# Altium footprint library Connector_PinHeader_1.00mm.PcbLib: 278 footprints (part 4 of 18)
Each footprint in its own frame and in the unit in brackets; x right, y up, seen from the top. Pads: shape width x height; smd on the part's side, far side on the other; paste and mask are expansions set on the pad; w line width, h text height; cw(c..) or ccw(c..) is an arc to the next point about the centre after c.
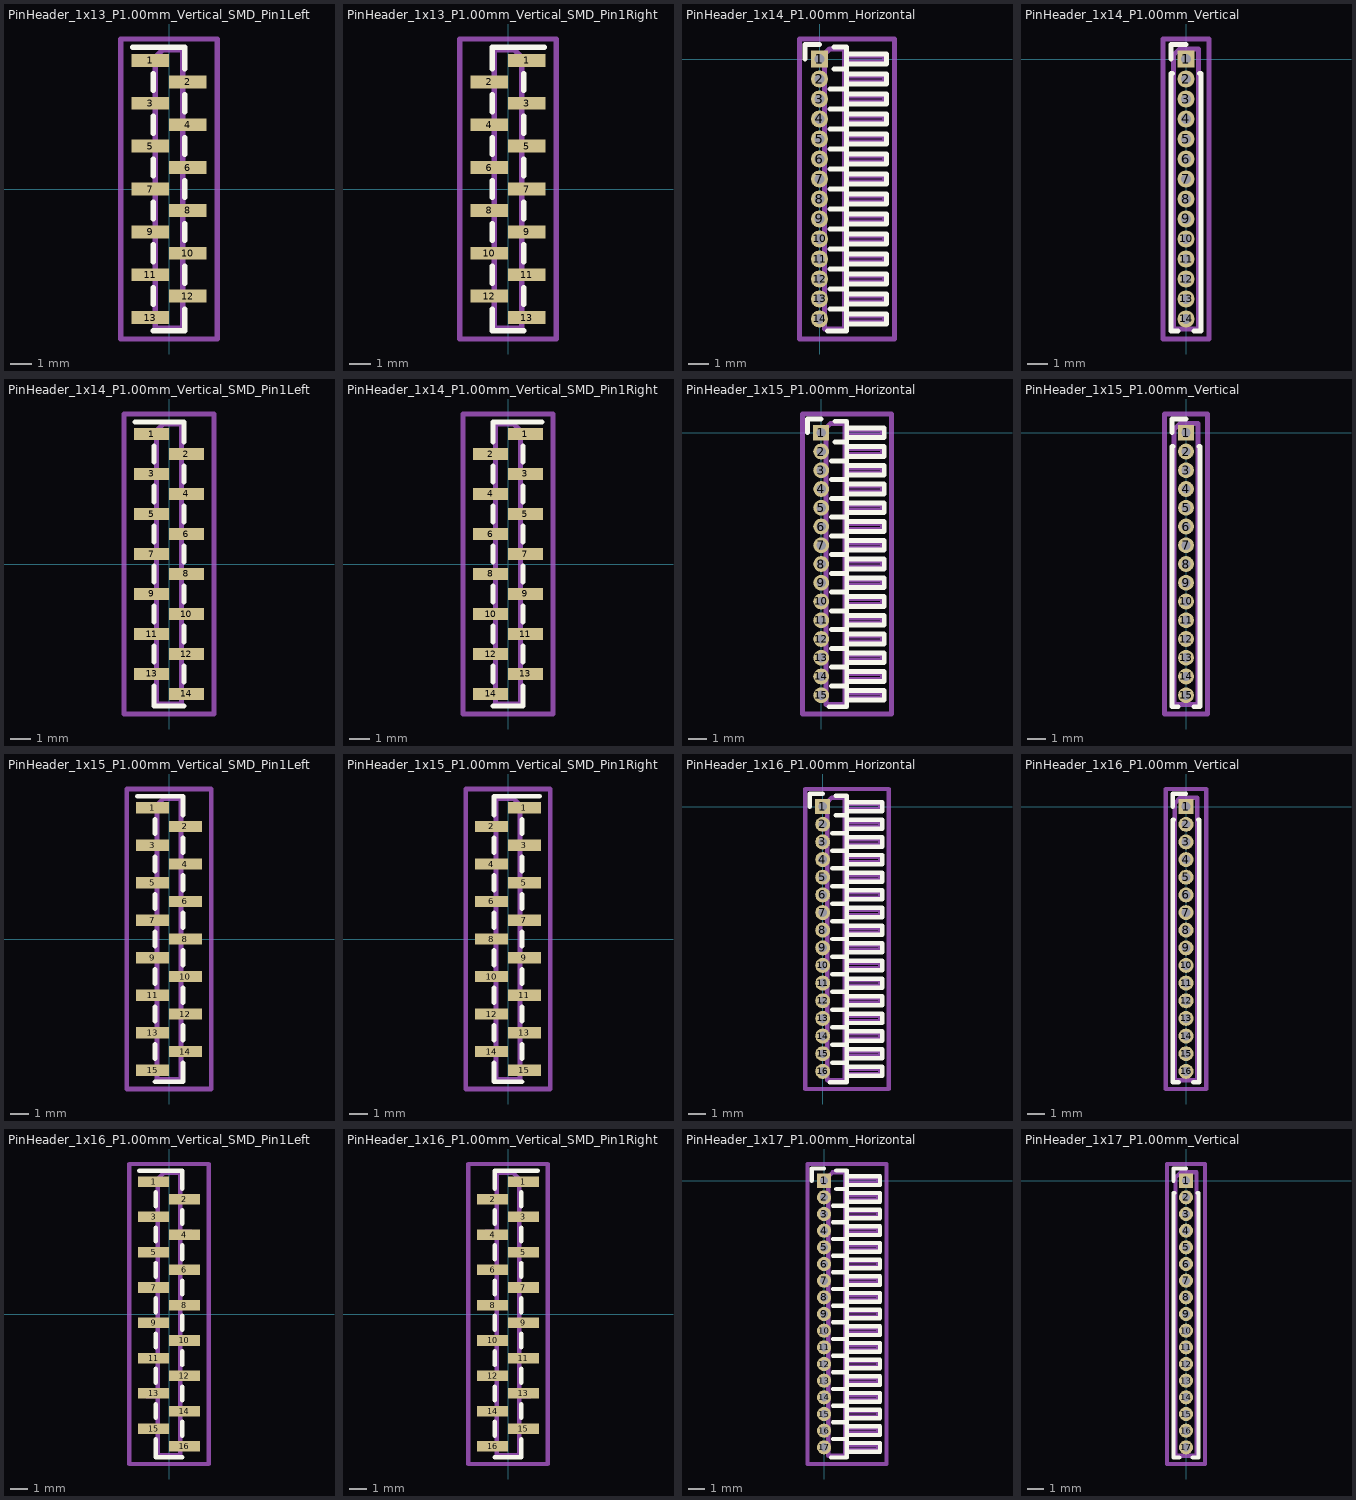
[diagram p3: the footprints below, top view; thin cyan lines are the x and y axes]

## PinHeader_1x13_P1.00mm_Vertical_SMD_Pin1Left [mm]
pads (13):
  rect 1.75x0.6 smd: 1(-0.875,6) 2(0.875,5) 3(-0.875,4) 4(0.875,3) 5(-0.875,2) 6(0.875,1) 7(-0.875,0) 8(0.875,-1) 9(-0.875,-2) 10(0.875,-3) 11(-0.875,-4) 12(0.875,-5) 13(-0.875,-6)
F.SilkS:
  lines w0.254: -1.69,6.61 -0.745,6.61 0.745,6.61 0.745,5.61 ; -0.745,-6.61 0.745,-6.61 0.745,-5.61 ; -0.745,-5.39 -0.745,-4.61 ; -0.745,-3.39 -0.745,-2.61 ; -0.745,-1.39 -0.745,-0.61 ; -0.745,0.61 -0.745,1.39 ; -0.745,2.61 -0.745,3.39 ; -0.745,4.61 -0.745,5.39 ; 0.745,-4.39 0.745,-3.61 ; 0.745,-2.39 0.745,-1.61 ; 0.745,-0.39 0.745,0.39 ; 0.745,1.61 0.745,2.39 ; 0.745,3.61 0.745,4.39
Top Assembly:
  lines w0.254: -0.635,-6.15 -1.25,-6.15 -1.25,-5.85 -0.635,-5.85 ; -0.635,-4.15 -1.25,-4.15 -1.25,-3.85 -0.635,-3.85 ; -0.635,-2.15 -1.25,-2.15 -1.25,-1.85 -0.635,-1.85 ; -0.635,-0.15 -1.25,-0.15 -1.25,0.15 -0.635,0.15 ; -0.635,1.85 -1.25,1.85 -1.25,2.15 -0.635,2.15 ; -0.635,3.85 -1.25,3.85 -1.25,4.15 -0.635,4.15 ; -0.635,5.85 -1.25,5.85 -1.25,6.15 -0.635,6.15 ; 0.635,-5.15 1.25,-5.15 1.25,-4.85 0.635,-4.85 ; 0.635,-3.15 1.25,-3.15 1.25,-2.85 0.635,-2.85 ; 0.635,-1.15 1.25,-1.15 1.25,-0.85 0.635,-0.85 ; 0.635,0.85 1.25,0.85 1.25,1.15 0.635,1.15 ; 0.635,2.85 1.25,2.85 1.25,3.15 0.635,3.15 ; 0.635,4.85 1.25,4.85 1.25,5.15 0.635,5.15 ; -0.635,6.15 -0.635,-6.5 0.635,-6.5 0.635,6.5 -0.285,6.5 -0.635,6.15
  text "'.Designator'" at 0.84,-4.047 h1
Top Courtyard:
  lines w0.254: -2.25,-7 2.25,-7 2.25,7 -2.25,7 -2.25,-7
Top Designator:
  text ".Designator" at -7.618,-0.508 h1.52

## PinHeader_1x13_P1.00mm_Vertical_SMD_Pin1Right [mm]
pads (13):
  rect 1.75x0.6 smd: 1(0.875,6) 2(-0.875,5) 3(0.875,4) 4(-0.875,3) 5(0.875,2) 6(-0.875,1) 7(0.875,0) 8(-0.875,-1) 9(0.875,-2) 10(-0.875,-3) 11(0.875,-4) 12(-0.875,-5) 13(0.875,-6)
F.SilkS:
  lines w0.254: -0.745,-5.61 -0.745,-6.61 0.745,-6.61 ; -0.745,-4.39 -0.745,-3.61 ; -0.745,-2.39 -0.745,-1.61 ; -0.745,-0.39 -0.745,0.39 ; -0.745,1.61 -0.745,2.39 ; -0.745,3.61 -0.745,4.39 ; -0.745,6.39 -0.745,5.61 -0.745,6.61 0.745,6.61 1.69,6.61 ; 0.745,-5.39 0.745,-4.61 ; 0.745,-3.39 0.745,-2.61 ; 0.745,-1.39 0.745,-0.61 ; 0.745,0.61 0.745,1.39 ; 0.745,2.61 0.745,3.39 ; 0.745,4.61 0.745,5.39
Top Assembly:
  lines w0.254: -0.635,-5.15 -1.25,-5.15 -1.25,-4.85 -0.635,-4.85 ; -0.635,-3.15 -1.25,-3.15 -1.25,-2.85 -0.635,-2.85 ; -0.635,-1.15 -1.25,-1.15 -1.25,-0.85 -0.635,-0.85 ; -0.635,0.85 -1.25,0.85 -1.25,1.15 -0.635,1.15 ; -0.635,2.85 -1.25,2.85 -1.25,3.15 -0.635,3.15 ; -0.635,4.85 -1.25,4.85 -1.25,5.15 -0.635,5.15 ; 0.635,-6.15 1.25,-6.15 1.25,-5.85 0.635,-5.85 ; 0.635,-4.15 1.25,-4.15 1.25,-3.85 0.635,-3.85 ; 0.635,-2.15 1.25,-2.15 1.25,-1.85 0.635,-1.85 ; 0.635,-0.15 1.25,-0.15 1.25,0.15 0.635,0.15 ; 0.635,1.85 1.25,1.85 1.25,2.15 0.635,2.15 ; 0.635,3.85 1.25,3.85 1.25,4.15 0.635,4.15 ; 0.635,5.85 1.25,5.85 1.25,6.15 0.635,6.15 ; 0.635,6.15 0.635,-6.5 -0.635,-6.5 -0.635,6.5 0.285,6.5 0.635,6.15
  text "'.Designator'" at 0.84,-4.047 h1
Top Courtyard:
  lines w0.254: -2.25,-7 2.25,-7 2.25,7 -2.25,7 -2.25,-7
Top Designator:
  text ".Designator" at -7.618,-0.508 h1.52

## PinHeader_1x14_P1.00mm_Horizontal [mm]
pads (14):
  rect 0.85x0.85 hole 0.5: 1(0,0)
  round 0.85 hole 0.5: 2(0,-1) 3(0,-2) 4(0,-3) 5(0,-4) 6(0,-5) 7(0,-6) 8(0,-7) 9(0,-8) 10(0,-9) 11(0,-10) 12(0,-11) 13(0,-12) 14(0,-13)
F.SilkS:
  lines w0.254: -0.735,0 -0.735,0.735 0,0.735 ; 0.41,-13.61 1.36,-13.61 1.36,0.61 0.735,0.61 ; 0.539,-12.5 1.36,-12.5 ; 0.539,-11.5 1.36,-11.5 ; 0.539,-10.5 1.36,-10.5 ; 0.539,-9.5 1.36,-9.5 ; 0.539,-8.5 1.36,-8.5 ; 0.539,-7.5 1.36,-7.5 ; 0.539,-6.5 1.36,-6.5 ; 0.539,-5.5 1.36,-5.5 ; 0.539,-4.5 1.36,-4.5 ; 0.539,-3.5 1.36,-3.5 ; 0.539,-2.5 1.36,-2.5 ; 0.539,-1.5 1.36,-1.5 ; 0.735,-0.5 1.36,-0.5 ; 1.36,-13.26 3.36,-13.26 3.36,-12.74 1.36,-12.74 ; 1.36,-12.26 3.36,-12.26 3.36,-11.74 1.36,-11.74 ; 1.36,-11.26 3.36,-11.26 3.36,-10.74 1.36,-10.74 ; 1.36,-10.26 3.36,-10.26 3.36,-9.74 1.36,-9.74 ; 1.36,-9.26 3.36,-9.26 3.36,-8.74 1.36,-8.74 ; 1.36,-8.26 3.36,-8.26 3.36,-7.74 1.36,-7.74 ; 1.36,-7.26 3.36,-7.26 3.36,-6.74 1.36,-6.74 ; 1.36,-6.26 3.36,-6.26 3.36,-5.74 1.36,-5.74 ; 1.36,-5.26 3.36,-5.26 3.36,-4.74 1.36,-4.74 ; 1.36,-4.26 3.36,-4.26 3.36,-3.74 1.36,-3.74 ; 1.36,-3.26 3.36,-3.26 3.36,-2.74 1.36,-2.74 ; 1.36,-2.26 3.36,-2.26 3.36,-1.74 1.36,-1.74 ; 1.36,-1.26 3.36,-1.26 3.36,-0.74 1.36,-0.74 ; 1.36,-0.26 3.36,-0.26 3.36,0.26 1.36,0.26 1.36,-0.26
Top Assembly:
  lines w0.254: 0.25,-13.15 -0.15,-13.15 -0.15,-12.85 0.25,-12.85 ; 0.25,-12.15 -0.15,-12.15 -0.15,-11.85 0.25,-11.85 ; 0.25,-11.15 -0.15,-11.15 -0.15,-10.85 0.25,-10.85 ; 0.25,-10.15 -0.15,-10.15 -0.15,-9.85 0.25,-9.85 ; 0.25,-9.15 -0.15,-9.15 -0.15,-8.85 0.25,-8.85 ; 0.25,-8.15 -0.15,-8.15 -0.15,-7.85 0.25,-7.85 ; 0.25,-7.15 -0.15,-7.15 -0.15,-6.85 0.25,-6.85 ; 0.25,-6.15 -0.15,-6.15 -0.15,-5.85 0.25,-5.85 ; 0.25,-5.15 -0.15,-5.15 -0.15,-4.85 0.25,-4.85 ; 0.25,-4.15 -0.15,-4.15 -0.15,-3.85 0.25,-3.85 ; 0.25,-3.15 -0.15,-3.15 -0.15,-2.85 0.25,-2.85 ; 0.25,-2.15 -0.15,-2.15 -0.15,-1.85 0.25,-1.85 ; 0.25,-1.15 -0.15,-1.15 -0.15,-0.85 0.25,-0.85 ; 0.25,-0.15 -0.15,-0.15 -0.15,0.15 0.25,0.15 ; 1.25,-13.15 3.25,-13.15 3.25,-12.85 1.25,-12.85 ; 1.25,-12.15 3.25,-12.15 3.25,-11.85 1.25,-11.85 ; 1.25,-11.15 3.25,-11.15 3.25,-10.85 1.25,-10.85 ; 1.25,-10.15 3.25,-10.15 3.25,-9.85 1.25,-9.85 ; 1.25,-9.15 3.25,-9.15 3.25,-8.85 1.25,-8.85 ; 1.25,-8.15 3.25,-8.15 3.25,-7.85 1.25,-7.85 ; 1.25,-7.15 3.25,-7.15 3.25,-6.85 1.25,-6.85 ; 1.25,-6.15 3.25,-6.15 3.25,-5.85 1.25,-5.85 ; 1.25,-5.15 3.25,-5.15 3.25,-4.85 1.25,-4.85 ; 1.25,-4.15 3.25,-4.15 3.25,-3.85 1.25,-3.85 ; 1.25,-3.15 3.25,-3.15 3.25,-2.85 1.25,-2.85 ; 1.25,-2.15 3.25,-2.15 3.25,-1.85 1.25,-1.85 ; 1.25,-1.15 3.25,-1.15 3.25,-0.85 1.25,-0.85 ; 1.25,-0.15 3.25,-0.15 3.25,0.15 1.25,0.15 ; 0.25,-13.5 1.25,-13.5 1.25,0.5 0.5,0.5 0.25,0.25 0.25,-13.5
  text "'.Designator'" at 1.254,-8.928 h0.6
Top Courtyard:
  lines w0.254: -1,-14 3.75,-14 3.75,1 -1,1 -1,-14
Top Designator:
  text ".Designator" at -6.243,-7.008 h1.52

## PinHeader_1x14_P1.00mm_Vertical [mm]
pads (14):
  rect 0.85x0.85 hole 0.5: 1(0,0)
  round 0.85 hole 0.5: 2(0,-1) 3(0,-2) 4(0,-3) 5(0,-4) 6(0,-5) 7(0,-6) 8(0,-7) 9(0,-8) 10(0,-9) 11(0,-10) 12(0,-11) 13(0,-12) 14(0,-13)
F.SilkS:
  lines w0.254: -0.745,0 -0.745,0.735 0,0.735 ; -0.686,-0.735 -0.745,-0.735 -0.745,-13.61 -0.41,-13.61 ; 0.41,-13.61 0.745,-13.61 0.745,-0.735 0.686,-0.735
Top Assembly:
  lines w0.254: -0.635,-13.5 0.635,-13.5 0.635,0.5 -0.318,0.5 -0.635,0.182 -0.635,-13.5
  text "'.Designator'" at 0.639,-9.576 h0.76
Top Courtyard:
  lines w0.254: -1.14,-14 1.14,-14 1.14,1 -1.14,1 -1.14,-14
Top Designator:
  text ".Designator" at -7.618,-7.008 h1.52

## PinHeader_1x14_P1.00mm_Vertical_SMD_Pin1Left [mm]
pads (14):
  rect 1.75x0.6 smd: 1(-0.875,6.5) 2(0.875,5.5) 3(-0.875,4.5) 4(0.875,3.5) 5(-0.875,2.5) 6(0.875,1.5) 7(-0.875,0.5) 8(0.875,-0.5) 9(-0.875,-1.5) 10(0.875,-2.5) 11(-0.875,-3.5) 12(0.875,-4.5) 13(-0.875,-5.5) 14(0.875,-6.5)
F.SilkS:
  lines w0.254: -1.69,7.11 -0.745,7.11 0.745,7.11 0.745,6.11 ; -0.745,-6.11 -0.745,-7.11 0.745,-7.11 ; -0.745,-4.89 -0.745,-4.11 ; -0.745,-2.89 -0.745,-2.11 ; -0.745,-0.89 -0.745,-0.11 ; -0.745,1.11 -0.745,1.89 ; -0.745,3.11 -0.745,3.89 ; -0.745,5.11 -0.745,5.89 ; 0.745,-5.89 0.745,-5.11 ; 0.745,-3.89 0.745,-3.11 ; 0.745,-1.89 0.745,-1.11 ; 0.745,0.11 0.745,0.89 ; 0.745,2.11 0.745,2.89 ; 0.745,4.11 0.745,4.89
Top Assembly:
  lines w0.254: -0.635,-5.65 -1.25,-5.65 -1.25,-5.35 -0.635,-5.35 ; -0.635,-3.65 -1.25,-3.65 -1.25,-3.35 -0.635,-3.35 ; -0.635,-1.65 -1.25,-1.65 -1.25,-1.35 -0.635,-1.35 ; -0.635,0.35 -1.25,0.35 -1.25,0.65 -0.635,0.65 ; -0.635,2.35 -1.25,2.35 -1.25,2.65 -0.635,2.65 ; -0.635,4.35 -1.25,4.35 -1.25,4.65 -0.635,4.65 ; -0.635,6.35 -1.25,6.35 -1.25,6.65 -0.635,6.65 ; 0.635,-6.65 1.25,-6.65 1.25,-6.35 0.635,-6.35 ; 0.635,-4.65 1.25,-4.65 1.25,-4.35 0.635,-4.35 ; 0.635,-2.65 1.25,-2.65 1.25,-2.35 0.635,-2.35 ; 0.635,-0.65 1.25,-0.65 1.25,-0.35 0.635,-0.35 ; 0.635,1.35 1.25,1.35 1.25,1.65 0.635,1.65 ; 0.635,3.35 1.25,3.35 1.25,3.65 0.635,3.65 ; 0.635,5.35 1.25,5.35 1.25,5.65 0.635,5.65 ; -0.635,6.65 -0.635,-7 0.635,-7 0.635,7 -0.285,7 -0.635,6.65
  text "'.Designator'" at 0.84,-4.047 h1
Top Courtyard:
  lines w0.254: -2.25,-7.5 2.25,-7.5 2.25,7.5 -2.25,7.5 -2.25,-7.5
Top Designator:
  text ".Designator" at -7.618,-0.508 h1.52

## PinHeader_1x14_P1.00mm_Vertical_SMD_Pin1Right [mm]
pads (14):
  rect 1.75x0.6 smd: 1(0.875,6.5) 2(-0.875,5.5) 3(0.875,4.5) 4(-0.875,3.5) 5(0.875,2.5) 6(-0.875,1.5) 7(0.875,0.5) 8(-0.875,-0.5) 9(0.875,-1.5) 10(-0.875,-2.5) 11(0.875,-3.5) 12(-0.875,-4.5) 13(0.875,-5.5) 14(-0.875,-6.5)
F.SilkS:
  lines w0.254: -0.745,-7.11 0.745,-7.11 0.745,-6.11 ; -0.745,-5.89 -0.745,-5.11 ; -0.745,-3.89 -0.745,-3.11 ; -0.745,-1.89 -0.745,-1.11 ; -0.745,0.11 -0.745,0.89 ; -0.745,2.11 -0.745,2.89 ; -0.745,4.11 -0.745,4.89 ; -0.745,6.89 -0.745,6.11 -0.745,7.11 0.745,7.11 1.69,7.11 ; 0.745,-4.89 0.745,-4.11 ; 0.745,-2.89 0.745,-2.11 ; 0.745,-0.89 0.745,-0.11 ; 0.745,1.11 0.745,1.89 ; 0.745,3.11 0.745,3.89 ; 0.745,5.11 0.745,5.89
Top Assembly:
  lines w0.254: -0.635,-6.65 -1.25,-6.65 -1.25,-6.35 -0.635,-6.35 ; -0.635,-4.65 -1.25,-4.65 -1.25,-4.35 -0.635,-4.35 ; -0.635,-2.65 -1.25,-2.65 -1.25,-2.35 -0.635,-2.35 ; -0.635,-0.65 -1.25,-0.65 -1.25,-0.35 -0.635,-0.35 ; -0.635,1.35 -1.25,1.35 -1.25,1.65 -0.635,1.65 ; -0.635,3.35 -1.25,3.35 -1.25,3.65 -0.635,3.65 ; -0.635,5.35 -1.25,5.35 -1.25,5.65 -0.635,5.65 ; 0.635,-5.65 1.25,-5.65 1.25,-5.35 0.635,-5.35 ; 0.635,-3.65 1.25,-3.65 1.25,-3.35 0.635,-3.35 ; 0.635,-1.65 1.25,-1.65 1.25,-1.35 0.635,-1.35 ; 0.635,0.35 1.25,0.35 1.25,0.65 0.635,0.65 ; 0.635,2.35 1.25,2.35 1.25,2.65 0.635,2.65 ; 0.635,4.35 1.25,4.35 1.25,4.65 0.635,4.65 ; 0.635,6.35 1.25,6.35 1.25,6.65 0.635,6.65 ; 0.635,6.65 0.635,-7 -0.635,-7 -0.635,7 0.285,7 0.635,6.65
  text "'.Designator'" at 0.84,-4.047 h1
Top Courtyard:
  lines w0.254: -2.25,-7.5 2.25,-7.5 2.25,7.5 -2.25,7.5 -2.25,-7.5
Top Designator:
  text ".Designator" at -7.618,-0.508 h1.52

## PinHeader_1x15_P1.00mm_Horizontal [mm]
pads (15):
  rect 0.85x0.85 hole 0.5: 1(0,0)
  round 0.85 hole 0.5: 2(0,-1) 3(0,-2) 4(0,-3) 5(0,-4) 6(0,-5) 7(0,-6) 8(0,-7) 9(0,-8) 10(0,-9) 11(0,-10) 12(0,-11) 13(0,-12) 14(0,-13) 15(0,-14)
F.SilkS:
  lines w0.254: -0.735,0 -0.735,0.735 0,0.735 ; 0.41,-14.61 1.36,-14.61 1.36,0.61 0.735,0.61 ; 0.539,-13.5 1.36,-13.5 ; 0.539,-12.5 1.36,-12.5 ; 0.539,-11.5 1.36,-11.5 ; 0.539,-10.5 1.36,-10.5 ; 0.539,-9.5 1.36,-9.5 ; 0.539,-8.5 1.36,-8.5 ; 0.539,-7.5 1.36,-7.5 ; 0.539,-6.5 1.36,-6.5 ; 0.539,-5.5 1.36,-5.5 ; 0.539,-4.5 1.36,-4.5 ; 0.539,-3.5 1.36,-3.5 ; 0.539,-2.5 1.36,-2.5 ; 0.539,-1.5 1.36,-1.5 ; 0.735,-0.5 1.36,-0.5 ; 1.36,-14.26 3.36,-14.26 3.36,-13.74 1.36,-13.74 ; 1.36,-13.26 3.36,-13.26 3.36,-12.74 1.36,-12.74 ; 1.36,-12.26 3.36,-12.26 3.36,-11.74 1.36,-11.74 ; 1.36,-11.26 3.36,-11.26 3.36,-10.74 1.36,-10.74 ; 1.36,-10.26 3.36,-10.26 3.36,-9.74 1.36,-9.74 ; 1.36,-9.26 3.36,-9.26 3.36,-8.74 1.36,-8.74 ; 1.36,-8.26 3.36,-8.26 3.36,-7.74 1.36,-7.74 ; 1.36,-7.26 3.36,-7.26 3.36,-6.74 1.36,-6.74 ; 1.36,-6.26 3.36,-6.26 3.36,-5.74 1.36,-5.74 ; 1.36,-5.26 3.36,-5.26 3.36,-4.74 1.36,-4.74 ; 1.36,-4.26 3.36,-4.26 3.36,-3.74 1.36,-3.74 ; 1.36,-3.26 3.36,-3.26 3.36,-2.74 1.36,-2.74 ; 1.36,-2.26 3.36,-2.26 3.36,-1.74 1.36,-1.74 ; 1.36,-1.26 3.36,-1.26 3.36,-0.74 1.36,-0.74 ; 1.36,-0.26 3.36,-0.26 3.36,0.26 1.36,0.26 1.36,-0.26
Top Assembly:
  lines w0.254: 0.25,-14.15 -0.15,-14.15 -0.15,-13.85 0.25,-13.85 ; 0.25,-13.15 -0.15,-13.15 -0.15,-12.85 0.25,-12.85 ; 0.25,-12.15 -0.15,-12.15 -0.15,-11.85 0.25,-11.85 ; 0.25,-11.15 -0.15,-11.15 -0.15,-10.85 0.25,-10.85 ; 0.25,-10.15 -0.15,-10.15 -0.15,-9.85 0.25,-9.85 ; 0.25,-9.15 -0.15,-9.15 -0.15,-8.85 0.25,-8.85 ; 0.25,-8.15 -0.15,-8.15 -0.15,-7.85 0.25,-7.85 ; 0.25,-7.15 -0.15,-7.15 -0.15,-6.85 0.25,-6.85 ; 0.25,-6.15 -0.15,-6.15 -0.15,-5.85 0.25,-5.85 ; 0.25,-5.15 -0.15,-5.15 -0.15,-4.85 0.25,-4.85 ; 0.25,-4.15 -0.15,-4.15 -0.15,-3.85 0.25,-3.85 ; 0.25,-3.15 -0.15,-3.15 -0.15,-2.85 0.25,-2.85 ; 0.25,-2.15 -0.15,-2.15 -0.15,-1.85 0.25,-1.85 ; 0.25,-1.15 -0.15,-1.15 -0.15,-0.85 0.25,-0.85 ; 0.25,-0.15 -0.15,-0.15 -0.15,0.15 0.25,0.15 ; 1.25,-14.15 3.25,-14.15 3.25,-13.85 1.25,-13.85 ; 1.25,-13.15 3.25,-13.15 3.25,-12.85 1.25,-12.85 ; 1.25,-12.15 3.25,-12.15 3.25,-11.85 1.25,-11.85 ; 1.25,-11.15 3.25,-11.15 3.25,-10.85 1.25,-10.85 ; 1.25,-10.15 3.25,-10.15 3.25,-9.85 1.25,-9.85 ; 1.25,-9.15 3.25,-9.15 3.25,-8.85 1.25,-8.85 ; 1.25,-8.15 3.25,-8.15 3.25,-7.85 1.25,-7.85 ; 1.25,-7.15 3.25,-7.15 3.25,-6.85 1.25,-6.85 ; 1.25,-6.15 3.25,-6.15 3.25,-5.85 1.25,-5.85 ; 1.25,-5.15 3.25,-5.15 3.25,-4.85 1.25,-4.85 ; 1.25,-4.15 3.25,-4.15 3.25,-3.85 1.25,-3.85 ; 1.25,-3.15 3.25,-3.15 3.25,-2.85 1.25,-2.85 ; 1.25,-2.15 3.25,-2.15 3.25,-1.85 1.25,-1.85 ; 1.25,-1.15 3.25,-1.15 3.25,-0.85 1.25,-0.85 ; 1.25,-0.15 3.25,-0.15 3.25,0.15 1.25,0.15 ; 0.25,-14.5 1.25,-14.5 1.25,0.5 0.5,0.5 0.25,0.25 0.25,-14.5
  text "'.Designator'" at 1.254,-9.428 h0.6
Top Courtyard:
  lines w0.254: -1,-15 3.75,-15 3.75,1 -1,1 -1,-15
Top Designator:
  text ".Designator" at -6.243,-7.508 h1.52

## PinHeader_1x15_P1.00mm_Vertical [mm]
pads (15):
  rect 0.85x0.85 hole 0.5: 1(0,0)
  round 0.85 hole 0.5: 2(0,-1) 3(0,-2) 4(0,-3) 5(0,-4) 6(0,-5) 7(0,-6) 8(0,-7) 9(0,-8) 10(0,-9) 11(0,-10) 12(0,-11) 13(0,-12) 14(0,-13) 15(0,-14)
F.SilkS:
  lines w0.254: -0.745,0 -0.745,0.735 0,0.735 ; -0.686,-0.735 -0.745,-0.735 -0.745,-14.61 -0.41,-14.61 ; 0.41,-14.61 0.745,-14.61 0.745,-0.735 0.686,-0.735
Top Assembly:
  lines w0.254: -0.635,-14.5 0.635,-14.5 0.635,0.5 -0.318,0.5 -0.635,0.182 -0.635,-14.5
  text "'.Designator'" at 0.639,-10.076 h0.76
Top Courtyard:
  lines w0.254: -1.14,-15 1.14,-15 1.14,1 -1.14,1 -1.14,-15
Top Designator:
  text ".Designator" at -7.618,-7.508 h1.52

## PinHeader_1x15_P1.00mm_Vertical_SMD_Pin1Left [mm]
pads (15):
  rect 1.75x0.6 smd: 1(-0.875,7) 2(0.875,6) 3(-0.875,5) 4(0.875,4) 5(-0.875,3) 6(0.875,2) 7(-0.875,1) 8(0.875,0) 9(-0.875,-1) 10(0.875,-2) 11(-0.875,-3) 12(0.875,-4) 13(-0.875,-5) 14(0.875,-6) 15(-0.875,-7)
F.SilkS:
  lines w0.254: -1.69,7.61 -0.745,7.61 0.745,7.61 0.745,6.61 ; -0.745,-7.61 0.745,-7.61 0.745,-6.61 ; -0.745,-6.39 -0.745,-5.61 ; -0.745,-4.39 -0.745,-3.61 ; -0.745,-2.39 -0.745,-1.61 ; -0.745,-0.39 -0.745,0.39 ; -0.745,1.61 -0.745,2.39 ; -0.745,3.61 -0.745,4.39 ; -0.745,5.61 -0.745,6.39 ; 0.745,-5.39 0.745,-4.61 ; 0.745,-3.39 0.745,-2.61 ; 0.745,-1.39 0.745,-0.61 ; 0.745,0.61 0.745,1.39 ; 0.745,2.61 0.745,3.39 ; 0.745,4.61 0.745,5.39
Top Assembly:
  lines w0.254: -0.635,-7.15 -1.25,-7.15 -1.25,-6.85 -0.635,-6.85 ; -0.635,-5.15 -1.25,-5.15 -1.25,-4.85 -0.635,-4.85 ; -0.635,-3.15 -1.25,-3.15 -1.25,-2.85 -0.635,-2.85 ; -0.635,-1.15 -1.25,-1.15 -1.25,-0.85 -0.635,-0.85 ; -0.635,0.85 -1.25,0.85 -1.25,1.15 -0.635,1.15 ; -0.635,2.85 -1.25,2.85 -1.25,3.15 -0.635,3.15 ; -0.635,4.85 -1.25,4.85 -1.25,5.15 -0.635,5.15 ; -0.635,6.85 -1.25,6.85 -1.25,7.15 -0.635,7.15 ; 0.635,-6.15 1.25,-6.15 1.25,-5.85 0.635,-5.85 ; 0.635,-4.15 1.25,-4.15 1.25,-3.85 0.635,-3.85 ; 0.635,-2.15 1.25,-2.15 1.25,-1.85 0.635,-1.85 ; 0.635,-0.15 1.25,-0.15 1.25,0.15 0.635,0.15 ; 0.635,1.85 1.25,1.85 1.25,2.15 0.635,2.15 ; 0.635,3.85 1.25,3.85 1.25,4.15 0.635,4.15 ; 0.635,5.85 1.25,5.85 1.25,6.15 0.635,6.15 ; -0.635,7.15 -0.635,-7.5 0.635,-7.5 0.635,7.5 -0.285,7.5 -0.635,7.15
  text "'.Designator'" at 0.84,-4.047 h1
Top Courtyard:
  lines w0.254: -2.25,-8 2.25,-8 2.25,8 -2.25,8 -2.25,-8
Top Designator:
  text ".Designator" at -7.618,-0.508 h1.52

## PinHeader_1x15_P1.00mm_Vertical_SMD_Pin1Right [mm]
pads (15):
  rect 1.75x0.6 smd: 1(0.875,7) 2(-0.875,6) 3(0.875,5) 4(-0.875,4) 5(0.875,3) 6(-0.875,2) 7(0.875,1) 8(-0.875,0) 9(0.875,-1) 10(-0.875,-2) 11(0.875,-3) 12(-0.875,-4) 13(0.875,-5) 14(-0.875,-6) 15(0.875,-7)
F.SilkS:
  lines w0.254: -0.745,-6.61 -0.745,-7.61 0.745,-7.61 ; -0.745,-5.39 -0.745,-4.61 ; -0.745,-3.39 -0.745,-2.61 ; -0.745,-1.39 -0.745,-0.61 ; -0.745,0.61 -0.745,1.39 ; -0.745,2.61 -0.745,3.39 ; -0.745,4.61 -0.745,5.39 ; -0.745,7.39 -0.745,6.61 -0.745,7.61 0.745,7.61 1.69,7.61 ; 0.745,-6.39 0.745,-5.61 ; 0.745,-4.39 0.745,-3.61 ; 0.745,-2.39 0.745,-1.61 ; 0.745,-0.39 0.745,0.39 ; 0.745,1.61 0.745,2.39 ; 0.745,3.61 0.745,4.39 ; 0.745,5.61 0.745,6.39
Top Assembly:
  lines w0.254: -0.635,-6.15 -1.25,-6.15 -1.25,-5.85 -0.635,-5.85 ; -0.635,-4.15 -1.25,-4.15 -1.25,-3.85 -0.635,-3.85 ; -0.635,-2.15 -1.25,-2.15 -1.25,-1.85 -0.635,-1.85 ; -0.635,-0.15 -1.25,-0.15 -1.25,0.15 -0.635,0.15 ; -0.635,1.85 -1.25,1.85 -1.25,2.15 -0.635,2.15 ; -0.635,3.85 -1.25,3.85 -1.25,4.15 -0.635,4.15 ; -0.635,5.85 -1.25,5.85 -1.25,6.15 -0.635,6.15 ; 0.635,-7.15 1.25,-7.15 1.25,-6.85 0.635,-6.85 ; 0.635,-5.15 1.25,-5.15 1.25,-4.85 0.635,-4.85 ; 0.635,-3.15 1.25,-3.15 1.25,-2.85 0.635,-2.85 ; 0.635,-1.15 1.25,-1.15 1.25,-0.85 0.635,-0.85 ; 0.635,0.85 1.25,0.85 1.25,1.15 0.635,1.15 ; 0.635,2.85 1.25,2.85 1.25,3.15 0.635,3.15 ; 0.635,4.85 1.25,4.85 1.25,5.15 0.635,5.15 ; 0.635,6.85 1.25,6.85 1.25,7.15 0.635,7.15 ; 0.635,7.15 0.635,-7.5 -0.635,-7.5 -0.635,7.5 0.285,7.5 0.635,7.15
  text "'.Designator'" at 0.84,-4.047 h1
Top Courtyard:
  lines w0.254: -2.25,-8 2.25,-8 2.25,8 -2.25,8 -2.25,-8
Top Designator:
  text ".Designator" at -7.618,-0.508 h1.52

## PinHeader_1x16_P1.00mm_Horizontal [mm]
pads (16):
  rect 0.85x0.85 hole 0.5: 1(0,0)
  round 0.85 hole 0.5: 2(0,-1) 3(0,-2) 4(0,-3) 5(0,-4) 6(0,-5) 7(0,-6) 8(0,-7) 9(0,-8) 10(0,-9) 11(0,-10) 12(0,-11) 13(0,-12) 14(0,-13) 15(0,-14) 16(0,-15)
F.SilkS:
  lines w0.254: -0.735,0 -0.735,0.735 0,0.735 ; 0.41,-15.61 1.36,-15.61 1.36,0.61 0.735,0.61 ; 0.539,-14.5 1.36,-14.5 ; 0.539,-13.5 1.36,-13.5 ; 0.539,-12.5 1.36,-12.5 ; 0.539,-11.5 1.36,-11.5 ; 0.539,-10.5 1.36,-10.5 ; 0.539,-9.5 1.36,-9.5 ; 0.539,-8.5 1.36,-8.5 ; 0.539,-7.5 1.36,-7.5 ; 0.539,-6.5 1.36,-6.5 ; 0.539,-5.5 1.36,-5.5 ; 0.539,-4.5 1.36,-4.5 ; 0.539,-3.5 1.36,-3.5 ; 0.539,-2.5 1.36,-2.5 ; 0.539,-1.5 1.36,-1.5 ; 0.735,-0.5 1.36,-0.5 ; 1.36,-15.26 3.36,-15.26 3.36,-14.74 1.36,-14.74 ; 1.36,-14.26 3.36,-14.26 3.36,-13.74 1.36,-13.74 ; 1.36,-13.26 3.36,-13.26 3.36,-12.74 1.36,-12.74 ; 1.36,-12.26 3.36,-12.26 3.36,-11.74 1.36,-11.74 ; 1.36,-11.26 3.36,-11.26 3.36,-10.74 1.36,-10.74 ; 1.36,-10.26 3.36,-10.26 3.36,-9.74 1.36,-9.74 ; 1.36,-9.26 3.36,-9.26 3.36,-8.74 1.36,-8.74 ; 1.36,-8.26 3.36,-8.26 3.36,-7.74 1.36,-7.74 ; 1.36,-7.26 3.36,-7.26 3.36,-6.74 1.36,-6.74 ; 1.36,-6.26 3.36,-6.26 3.36,-5.74 1.36,-5.74 ; 1.36,-5.26 3.36,-5.26 3.36,-4.74 1.36,-4.74 ; 1.36,-4.26 3.36,-4.26 3.36,-3.74 1.36,-3.74 ; 1.36,-3.26 3.36,-3.26 3.36,-2.74 1.36,-2.74 ; 1.36,-2.26 3.36,-2.26 3.36,-1.74 1.36,-1.74 ; 1.36,-1.26 3.36,-1.26 3.36,-0.74 1.36,-0.74 ; 1.36,-0.26 3.36,-0.26 3.36,0.26 1.36,0.26 1.36,-0.26
Top Assembly:
  lines w0.254: 0.25,-15.15 -0.15,-15.15 -0.15,-14.85 0.25,-14.85 ; 0.25,-14.15 -0.15,-14.15 -0.15,-13.85 0.25,-13.85 ; 0.25,-13.15 -0.15,-13.15 -0.15,-12.85 0.25,-12.85 ; 0.25,-12.15 -0.15,-12.15 -0.15,-11.85 0.25,-11.85 ; 0.25,-11.15 -0.15,-11.15 -0.15,-10.85 0.25,-10.85 ; 0.25,-10.15 -0.15,-10.15 -0.15,-9.85 0.25,-9.85 ; 0.25,-9.15 -0.15,-9.15 -0.15,-8.85 0.25,-8.85 ; 0.25,-8.15 -0.15,-8.15 -0.15,-7.85 0.25,-7.85 ; 0.25,-7.15 -0.15,-7.15 -0.15,-6.85 0.25,-6.85 ; 0.25,-6.15 -0.15,-6.15 -0.15,-5.85 0.25,-5.85 ; 0.25,-5.15 -0.15,-5.15 -0.15,-4.85 0.25,-4.85 ; 0.25,-4.15 -0.15,-4.15 -0.15,-3.85 0.25,-3.85 ; 0.25,-3.15 -0.15,-3.15 -0.15,-2.85 0.25,-2.85 ; 0.25,-2.15 -0.15,-2.15 -0.15,-1.85 0.25,-1.85 ; 0.25,-1.15 -0.15,-1.15 -0.15,-0.85 0.25,-0.85 ; 0.25,-0.15 -0.15,-0.15 -0.15,0.15 0.25,0.15 ; 1.25,-15.15 3.25,-15.15 3.25,-14.85 1.25,-14.85 ; 1.25,-14.15 3.25,-14.15 3.25,-13.85 1.25,-13.85 ; 1.25,-13.15 3.25,-13.15 3.25,-12.85 1.25,-12.85 ; 1.25,-12.15 3.25,-12.15 3.25,-11.85 1.25,-11.85 ; 1.25,-11.15 3.25,-11.15 3.25,-10.85 1.25,-10.85 ; 1.25,-10.15 3.25,-10.15 3.25,-9.85 1.25,-9.85 ; 1.25,-9.15 3.25,-9.15 3.25,-8.85 1.25,-8.85 ; 1.25,-8.15 3.25,-8.15 3.25,-7.85 1.25,-7.85 ; 1.25,-7.15 3.25,-7.15 3.25,-6.85 1.25,-6.85 ; 1.25,-6.15 3.25,-6.15 3.25,-5.85 1.25,-5.85 ; 1.25,-5.15 3.25,-5.15 3.25,-4.85 1.25,-4.85 ; 1.25,-4.15 3.25,-4.15 3.25,-3.85 1.25,-3.85 ; 1.25,-3.15 3.25,-3.15 3.25,-2.85 1.25,-2.85 ; 1.25,-2.15 3.25,-2.15 3.25,-1.85 1.25,-1.85 ; 1.25,-1.15 3.25,-1.15 3.25,-0.85 1.25,-0.85 ; 1.25,-0.15 3.25,-0.15 3.25,0.15 1.25,0.15 ; 0.25,-15.5 1.25,-15.5 1.25,0.5 0.5,0.5 0.25,0.25 0.25,-15.5
  text "'.Designator'" at 1.254,-9.928 h0.6
Top Courtyard:
  lines w0.254: -1,-16 3.75,-16 3.75,1 -1,1 -1,-16
Top Designator:
  text ".Designator" at -6.243,-8.008 h1.52

## PinHeader_1x16_P1.00mm_Vertical [mm]
pads (16):
  rect 0.85x0.85 hole 0.5: 1(0,0)
  round 0.85 hole 0.5: 2(0,-1) 3(0,-2) 4(0,-3) 5(0,-4) 6(0,-5) 7(0,-6) 8(0,-7) 9(0,-8) 10(0,-9) 11(0,-10) 12(0,-11) 13(0,-12) 14(0,-13) 15(0,-14) 16(0,-15)
F.SilkS:
  lines w0.254: -0.745,0 -0.745,0.735 0,0.735 ; -0.686,-0.735 -0.745,-0.735 -0.745,-15.61 -0.41,-15.61 ; 0.41,-15.61 0.745,-15.61 0.745,-0.735 0.686,-0.735
Top Assembly:
  lines w0.254: -0.635,-15.5 0.635,-15.5 0.635,0.5 -0.318,0.5 -0.635,0.182 -0.635,-15.5
  text "'.Designator'" at 0.639,-10.576 h0.76
Top Courtyard:
  lines w0.254: -1.14,-16 1.14,-16 1.14,1 -1.14,1 -1.14,-16
Top Designator:
  text ".Designator" at -7.618,-8.008 h1.52

## PinHeader_1x16_P1.00mm_Vertical_SMD_Pin1Left [mm]
pads (16):
  rect 1.75x0.6 smd: 1(-0.875,7.5) 2(0.875,6.5) 3(-0.875,5.5) 4(0.875,4.5) 5(-0.875,3.5) 6(0.875,2.5) 7(-0.875,1.5) 8(0.875,0.5) 9(-0.875,-0.5) 10(0.875,-1.5) 11(-0.875,-2.5) 12(0.875,-3.5) 13(-0.875,-4.5) 14(0.875,-5.5) 15(-0.875,-6.5) 16(0.875,-7.5)
F.SilkS:
  lines w0.254: -1.69,8.11 -0.745,8.11 0.745,8.11 0.745,7.11 ; -0.745,-7.11 -0.745,-8.11 0.745,-8.11 ; -0.745,-5.89 -0.745,-5.11 ; -0.745,-3.89 -0.745,-3.11 ; -0.745,-1.89 -0.745,-1.11 ; -0.745,0.11 -0.745,0.89 ; -0.745,2.11 -0.745,2.89 ; -0.745,4.11 -0.745,4.89 ; -0.745,6.11 -0.745,6.89 ; 0.745,-6.89 0.745,-6.11 ; 0.745,-4.89 0.745,-4.11 ; 0.745,-2.89 0.745,-2.11 ; 0.745,-0.89 0.745,-0.11 ; 0.745,1.11 0.745,1.89 ; 0.745,3.11 0.745,3.89 ; 0.745,5.11 0.745,5.89
Top Assembly:
  lines w0.254: -0.635,-6.65 -1.25,-6.65 -1.25,-6.35 -0.635,-6.35 ; -0.635,-4.65 -1.25,-4.65 -1.25,-4.35 -0.635,-4.35 ; -0.635,-2.65 -1.25,-2.65 -1.25,-2.35 -0.635,-2.35 ; -0.635,-0.65 -1.25,-0.65 -1.25,-0.35 -0.635,-0.35 ; -0.635,1.35 -1.25,1.35 -1.25,1.65 -0.635,1.65 ; -0.635,3.35 -1.25,3.35 -1.25,3.65 -0.635,3.65 ; -0.635,5.35 -1.25,5.35 -1.25,5.65 -0.635,5.65 ; -0.635,7.35 -1.25,7.35 -1.25,7.65 -0.635,7.65 ; 0.635,-7.65 1.25,-7.65 1.25,-7.35 0.635,-7.35 ; 0.635,-5.65 1.25,-5.65 1.25,-5.35 0.635,-5.35 ; 0.635,-3.65 1.25,-3.65 1.25,-3.35 0.635,-3.35 ; 0.635,-1.65 1.25,-1.65 1.25,-1.35 0.635,-1.35 ; 0.635,0.35 1.25,0.35 1.25,0.65 0.635,0.65 ; 0.635,2.35 1.25,2.35 1.25,2.65 0.635,2.65 ; 0.635,4.35 1.25,4.35 1.25,4.65 0.635,4.65 ; 0.635,6.35 1.25,6.35 1.25,6.65 0.635,6.65 ; -0.635,7.65 -0.635,-8 0.635,-8 0.635,8 -0.285,8 -0.635,7.65
  text "'.Designator'" at 0.84,-4.047 h1
Top Courtyard:
  lines w0.254: -2.25,-8.5 2.25,-8.5 2.25,8.5 -2.25,8.5 -2.25,-8.5
Top Designator:
  text ".Designator" at -7.618,-0.508 h1.52

## PinHeader_1x16_P1.00mm_Vertical_SMD_Pin1Right [mm]
pads (16):
  rect 1.75x0.6 smd: 1(0.875,7.5) 2(-0.875,6.5) 3(0.875,5.5) 4(-0.875,4.5) 5(0.875,3.5) 6(-0.875,2.5) 7(0.875,1.5) 8(-0.875,0.5) 9(0.875,-0.5) 10(-0.875,-1.5) 11(0.875,-2.5) 12(-0.875,-3.5) 13(0.875,-4.5) 14(-0.875,-5.5) 15(0.875,-6.5) 16(-0.875,-7.5)
F.SilkS:
  lines w0.254: -0.745,-8.11 0.745,-8.11 0.745,-7.11 ; -0.745,-6.89 -0.745,-6.11 ; -0.745,-4.89 -0.745,-4.11 ; -0.745,-2.89 -0.745,-2.11 ; -0.745,-0.89 -0.745,-0.11 ; -0.745,1.11 -0.745,1.89 ; -0.745,3.11 -0.745,3.89 ; -0.745,5.11 -0.745,5.89 ; -0.745,7.89 -0.745,7.11 -0.745,8.11 0.745,8.11 1.69,8.11 ; 0.745,-5.89 0.745,-5.11 ; 0.745,-3.89 0.745,-3.11 ; 0.745,-1.89 0.745,-1.11 ; 0.745,0.11 0.745,0.89 ; 0.745,2.11 0.745,2.89 ; 0.745,4.11 0.745,4.89 ; 0.745,6.11 0.745,6.89
Top Assembly:
  lines w0.254: -0.635,-7.65 -1.25,-7.65 -1.25,-7.35 -0.635,-7.35 ; -0.635,-5.65 -1.25,-5.65 -1.25,-5.35 -0.635,-5.35 ; -0.635,-3.65 -1.25,-3.65 -1.25,-3.35 -0.635,-3.35 ; -0.635,-1.65 -1.25,-1.65 -1.25,-1.35 -0.635,-1.35 ; -0.635,0.35 -1.25,0.35 -1.25,0.65 -0.635,0.65 ; -0.635,2.35 -1.25,2.35 -1.25,2.65 -0.635,2.65 ; -0.635,4.35 -1.25,4.35 -1.25,4.65 -0.635,4.65 ; -0.635,6.35 -1.25,6.35 -1.25,6.65 -0.635,6.65 ; 0.635,-6.65 1.25,-6.65 1.25,-6.35 0.635,-6.35 ; 0.635,-4.65 1.25,-4.65 1.25,-4.35 0.635,-4.35 ; 0.635,-2.65 1.25,-2.65 1.25,-2.35 0.635,-2.35 ; 0.635,-0.65 1.25,-0.65 1.25,-0.35 0.635,-0.35 ; 0.635,1.35 1.25,1.35 1.25,1.65 0.635,1.65 ; 0.635,3.35 1.25,3.35 1.25,3.65 0.635,3.65 ; 0.635,5.35 1.25,5.35 1.25,5.65 0.635,5.65 ; 0.635,7.35 1.25,7.35 1.25,7.65 0.635,7.65 ; 0.635,7.65 0.635,-8 -0.635,-8 -0.635,8 0.285,8 0.635,7.65
  text "'.Designator'" at 0.84,-4.047 h1
Top Courtyard:
  lines w0.254: -2.25,-8.5 2.25,-8.5 2.25,8.5 -2.25,8.5 -2.25,-8.5
Top Designator:
  text ".Designator" at -7.618,-0.508 h1.52

## PinHeader_1x17_P1.00mm_Horizontal [mm]
pads (17):
  rect 0.85x0.85 hole 0.5: 1(0,0)
  round 0.85 hole 0.5: 2(0,-1) 3(0,-2) 4(0,-3) 5(0,-4) 6(0,-5) 7(0,-6) 8(0,-7) 9(0,-8) 10(0,-9) 11(0,-10) 12(0,-11) 13(0,-12) 14(0,-13) 15(0,-14) 16(0,-15) 17(0,-16)
F.SilkS:
  lines w0.254: -0.735,0 -0.735,0.735 0,0.735 ; 0.41,-16.61 1.36,-16.61 1.36,0.61 0.735,0.61 ; 0.539,-15.5 1.36,-15.5 ; 0.539,-14.5 1.36,-14.5 ; 0.539,-13.5 1.36,-13.5 ; 0.539,-12.5 1.36,-12.5 ; 0.539,-11.5 1.36,-11.5 ; 0.539,-10.5 1.36,-10.5 ; 0.539,-9.5 1.36,-9.5 ; 0.539,-8.5 1.36,-8.5 ; 0.539,-7.5 1.36,-7.5 ; 0.539,-6.5 1.36,-6.5 ; 0.539,-5.5 1.36,-5.5 ; 0.539,-4.5 1.36,-4.5 ; 0.539,-3.5 1.36,-3.5 ; 0.539,-2.5 1.36,-2.5 ; 0.539,-1.5 1.36,-1.5 ; 0.735,-0.5 1.36,-0.5 ; 1.36,-16.26 3.36,-16.26 3.36,-15.74 1.36,-15.74 ; 1.36,-15.26 3.36,-15.26 3.36,-14.74 1.36,-14.74 ; 1.36,-14.26 3.36,-14.26 3.36,-13.74 1.36,-13.74 ; 1.36,-13.26 3.36,-13.26 3.36,-12.74 1.36,-12.74 ; 1.36,-12.26 3.36,-12.26 3.36,-11.74 1.36,-11.74 ; 1.36,-11.26 3.36,-11.26 3.36,-10.74 1.36,-10.74 ; 1.36,-10.26 3.36,-10.26 3.36,-9.74 1.36,-9.74 ; 1.36,-9.26 3.36,-9.26 3.36,-8.74 1.36,-8.74 ; 1.36,-8.26 3.36,-8.26 3.36,-7.74 1.36,-7.74 ; 1.36,-7.26 3.36,-7.26 3.36,-6.74 1.36,-6.74 ; 1.36,-6.26 3.36,-6.26 3.36,-5.74 1.36,-5.74 ; 1.36,-5.26 3.36,-5.26 3.36,-4.74 1.36,-4.74 ; 1.36,-4.26 3.36,-4.26 3.36,-3.74 1.36,-3.74 ; 1.36,-3.26 3.36,-3.26 3.36,-2.74 1.36,-2.74 ; 1.36,-2.26 3.36,-2.26 3.36,-1.74 1.36,-1.74 ; 1.36,-1.26 3.36,-1.26 3.36,-0.74 1.36,-0.74 ; 1.36,-0.26 3.36,-0.26 3.36,0.26 1.36,0.26 1.36,-0.26
Top Assembly:
  lines w0.254: 0.25,-16.15 -0.15,-16.15 -0.15,-15.85 0.25,-15.85 ; 0.25,-15.15 -0.15,-15.15 -0.15,-14.85 0.25,-14.85 ; 0.25,-14.15 -0.15,-14.15 -0.15,-13.85 0.25,-13.85 ; 0.25,-13.15 -0.15,-13.15 -0.15,-12.85 0.25,-12.85 ; 0.25,-12.15 -0.15,-12.15 -0.15,-11.85 0.25,-11.85 ; 0.25,-11.15 -0.15,-11.15 -0.15,-10.85 0.25,-10.85 ; 0.25,-10.15 -0.15,-10.15 -0.15,-9.85 0.25,-9.85 ; 0.25,-9.15 -0.15,-9.15 -0.15,-8.85 0.25,-8.85 ; 0.25,-8.15 -0.15,-8.15 -0.15,-7.85 0.25,-7.85 ; 0.25,-7.15 -0.15,-7.15 -0.15,-6.85 0.25,-6.85 ; 0.25,-6.15 -0.15,-6.15 -0.15,-5.85 0.25,-5.85 ; 0.25,-5.15 -0.15,-5.15 -0.15,-4.85 0.25,-4.85 ; 0.25,-4.15 -0.15,-4.15 -0.15,-3.85 0.25,-3.85 ; 0.25,-3.15 -0.15,-3.15 -0.15,-2.85 0.25,-2.85 ; 0.25,-2.15 -0.15,-2.15 -0.15,-1.85 0.25,-1.85 ; 0.25,-1.15 -0.15,-1.15 -0.15,-0.85 0.25,-0.85 ; 0.25,-0.15 -0.15,-0.15 -0.15,0.15 0.25,0.15 ; 1.25,-16.15 3.25,-16.15 3.25,-15.85 1.25,-15.85 ; 1.25,-15.15 3.25,-15.15 3.25,-14.85 1.25,-14.85 ; 1.25,-14.15 3.25,-14.15 3.25,-13.85 1.25,-13.85 ; 1.25,-13.15 3.25,-13.15 3.25,-12.85 1.25,-12.85 ; 1.25,-12.15 3.25,-12.15 3.25,-11.85 1.25,-11.85 ; 1.25,-11.15 3.25,-11.15 3.25,-10.85 1.25,-10.85 ; 1.25,-10.15 3.25,-10.15 3.25,-9.85 1.25,-9.85 ; 1.25,-9.15 3.25,-9.15 3.25,-8.85 1.25,-8.85 ; 1.25,-8.15 3.25,-8.15 3.25,-7.85 1.25,-7.85 ; 1.25,-7.15 3.25,-7.15 3.25,-6.85 1.25,-6.85 ; 1.25,-6.15 3.25,-6.15 3.25,-5.85 1.25,-5.85 ; 1.25,-5.15 3.25,-5.15 3.25,-4.85 1.25,-4.85 ; 1.25,-4.15 3.25,-4.15 3.25,-3.85 1.25,-3.85 ; 1.25,-3.15 3.25,-3.15 3.25,-2.85 1.25,-2.85 ; 1.25,-2.15 3.25,-2.15 3.25,-1.85 1.25,-1.85 ; 1.25,-1.15 3.25,-1.15 3.25,-0.85 1.25,-0.85 ; 1.25,-0.15 3.25,-0.15 3.25,0.15 1.25,0.15 ; 0.25,-16.5 1.25,-16.5 1.25,0.5 0.5,0.5 0.25,0.25 0.25,-16.5
  text "'.Designator'" at 1.254,-10.428 h0.6
Top Courtyard:
  lines w0.254: -1,-17 3.75,-17 3.75,1 -1,1 -1,-17
Top Designator:
  text ".Designator" at -6.243,-8.508 h1.52

## PinHeader_1x17_P1.00mm_Vertical [mm]
pads (17):
  rect 0.85x0.85 hole 0.5: 1(0,0)
  round 0.85 hole 0.5: 2(0,-1) 3(0,-2) 4(0,-3) 5(0,-4) 6(0,-5) 7(0,-6) 8(0,-7) 9(0,-8) 10(0,-9) 11(0,-10) 12(0,-11) 13(0,-12) 14(0,-13) 15(0,-14) 16(0,-15) 17(0,-16)
F.SilkS:
  lines w0.254: -0.745,0 -0.745,0.735 0,0.735 ; -0.686,-0.735 -0.745,-0.735 -0.745,-16.61 -0.41,-16.61 ; 0.41,-16.61 0.745,-16.61 0.745,-0.735 0.686,-0.735
Top Assembly:
  lines w0.254: -0.635,-16.5 0.635,-16.5 0.635,0.5 -0.318,0.5 -0.635,0.182 -0.635,-16.5
  text "'.Designator'" at 0.639,-11.076 h0.76
Top Courtyard:
  lines w0.254: -1.14,-17 1.14,-17 1.14,1 -1.14,1 -1.14,-17
Top Designator:
  text ".Designator" at -7.618,-8.508 h1.52